# EAGLE library part SWS007 (library smd-special)
SMD Dip Switch 7 pol.
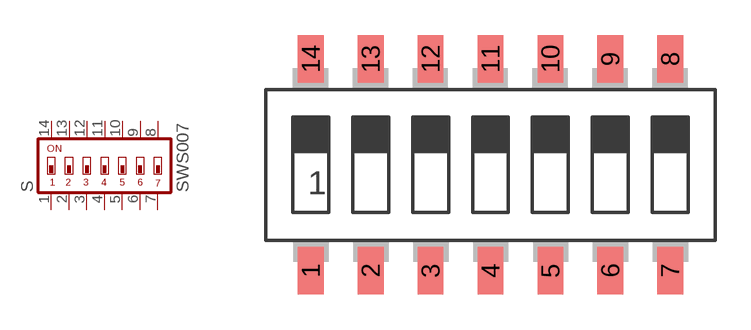
[diagram p3: symbol with the pads of SMS-007; footprint SMS-007]

Designator prefix S

## SWS007  [SMS-007]
1  1  pas
2  2  pas
3  3  pas
4  4  pas
5  5  pas
6  6  pas
7  7  pas
8  8  pas
9  9  pas
10  10  pas
11  11  pas
12  12  pas
13  13  pas
14  14  pas

## Footprint SMS-007 (pad centres in mm)
DIP SWITCH
smd 1.092 x 2.007: 1 -7.62,-4.496; 2 -5.08,-4.496; 3 -2.54,-4.496; 4 0,-4.496; 5 2.54,-4.496; 6 5.08,-4.496; 7 7.62,-4.496; 8 7.62,4.496; 9 5.08,4.496; 10 2.54,4.496; 11 0,4.496; 12 -2.54,4.496; 13 -5.08,4.496; 14 -7.62,4.496